# Altium schematic symbol library SCH - ADC - AD LTC2325-16.SchLib: 1 symbol
Pins are listed as number, name and electrical type; pins without a type are passive.

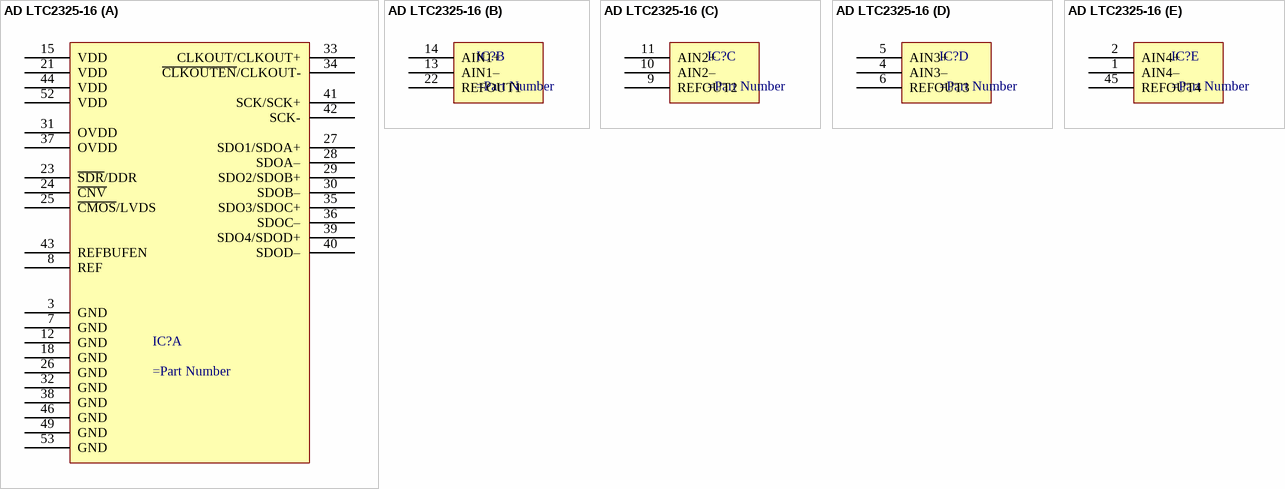
[diagram p0: symbol AD LTC2325-16]

## AD LTC2325-16
designator IC?
part A pins: 3 GND, 7 GND, 8 REF, 12 GND, 15 VDD, 18 GND, 21 VDD, 23 ~{SDR}/DDR, 24 ~{CNV}, 25 ~{CMOS}/LVDS, 26 GND, 27 SDO1/SDOA+, 28 SDOA–, 29 SDO2/SDOB+, 30 SDOB–, 31 OVDD, 32 GND, 33 CLKOUT/CLKOUT+, 34 ~{CLKOUTEN}/CLKOUT-, 35 SDO3/SDOC+, 36 SDOC–, 37 OVDD, 38 GND, 39 SDO4/SDOD+, 40 SDOD–, 41 SCK/SCK+, 42 SCK-, 43 REFBUFEN, 44 VDD, 46 GND, 49 GND, 52 VDD, 53 GND
part B pins: 13 AIN1–, 14 AIN1+, 22 REFOUT1
part C pins: 9 REFOUT2, 10 AIN2–, 11 AIN2+
part D pins: 4 AIN3–, 5 AIN3+, 6 REFOUT3
part E pins: 1 AIN4–, 2 AIN4+, 45 REFOUT4